# Altium footprint library HMC2003_module.PcbLib: 29 footprints (part 1 of 2)
Each footprint in its own frame and in the unit in brackets; x right, y up, seen from the top. Pads: shape width x height; smd on the part's side, far side on the other; paste and mask are expansions set on the pad; w line width, h text height; cw(c..) or ccw(c..) is an arc to the next point about the centre after c.
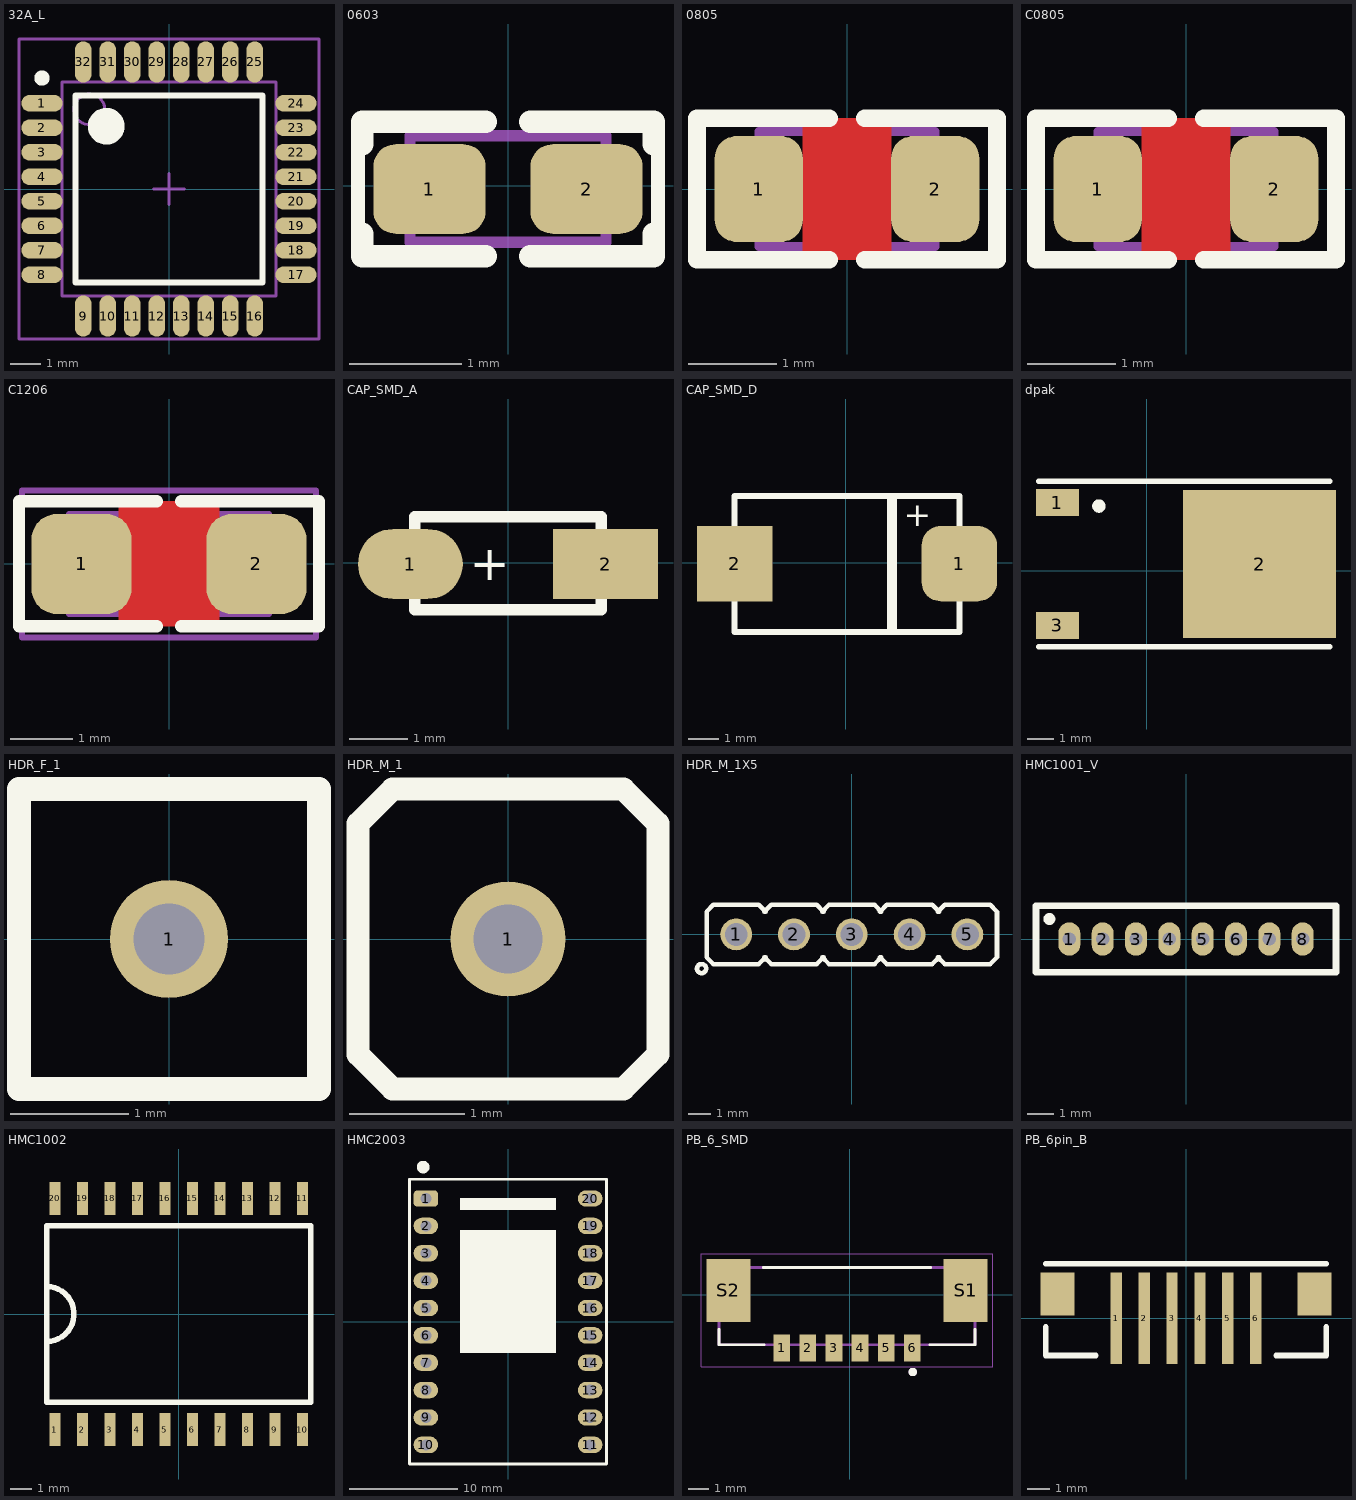
[diagram p0: the footprints below, top view; thin cyan lines are the x and y axes]

## 32A_L [mm] "Thin QFP, 32-Leads, Body 7x7mm, Pitch 0.8mm, IPC High Density"
height 1.2
pads (32):
  oval 1.35x0.55 smd: 1(-4.15,2.8) 2(-4.15,2) 3(-4.15,1.2) 4(-4.15,0.4) 5(-4.15,-0.4) 6(-4.15,-1.2) 7(-4.15,-2) 8(-4.15,-2.8) 17(4.15,-2.8) 18(4.15,-2) 19(4.15,-1.2) 20(4.15,-0.4) 21(4.15,0.4) 22(4.15,1.2) 23(4.15,2) 24(4.15,2.8)
  oval 0.55x1.35 smd: 9(-2.8,-4.15) 10(-2,-4.15) 11(-1.2,-4.15) 12(-0.4,-4.15) 13(0.4,-4.15) 14(1.2,-4.15) 15(2,-4.15) 16(2.8,-4.15) 25(2.8,4.15) 26(2,4.15) 27(1.2,4.15) 28(0.4,4.15) 29(-0.4,4.15) 30(-1.2,4.15) 31(-2,4.15) 32(-2.8,4.15)
Top Overlay:
  circle w0.6: c-2.05,2.05 r0.3
  circle w0.25: c-4.15,3.625 r0.125
  lines w0.2: -3.05,-3.05 3.05,-3.05 3.05,3.05 -3.05,3.05 -3.05,-3.05
Mechanical 13:
  circle w0.1: c-2.6,2.6 r0.5
  lines w0.1: -3.5,-3.5 3.5,-3.5 3.5,3.5 -3.5,3.5 -3.5,-3.5
Mechanical 15:
  lines w0.1: -0.5,0 0.5,0 ; 0,-0.5 0,0.5 ; -4.9,-4.9 4.9,-4.9 4.9,4.9 -4.9,4.9 -4.9,-4.9
3D body: height 1.2, standoff 0, extent -3.5,-3.5 3.5,3.5

## 0603 [mm]
pads (2):
  rrect50% 1x0.8 smd mask+0.075: 1(-0.7,-0.027) 2(0.7,-0.027)
Top Overlay:
  lines w0.125: -1.337,-0.427 -1.337,0.373 ; 1.337,-0.427 1.337,0.373
  lines w0.2: -1.3,-0.427 -1.3,-0.627 -0.2,-0.627 ; -1.3,0.373 -1.3,0.573 -0.2,0.573 ; 0.2,-0.627 1.3,-0.627 1.3,-0.427 ; 0.2,0.573 1.3,0.573 1.3,0.373
Mechanical 13:
  lines w0.1: -0.875,-0.502 0.875,-0.502 0.875,0.448 -0.875,0.448 -0.875,-0.502
3D body: height 0.6, standoff 0, extent -0.875,-0.502 0.875,0.448

## 0805 [mm] ",0805, 2012, 200X130"
pads (2):
  rrect50% 1x1.2 smd mask+0.075: 1(-1,0) 2(1,0)
Top Layer:
  pour cut-out: -0.5,0.8 0.5,0.8 0.5,-0.8 -0.5,-0.8
Top Overlay:
  lines w0.2: -0.2,-0.8 -1.7,-0.8 -1.7,0.8 -0.2,0.8 ; 0.2,-0.8 1.7,-0.8 1.7,0.8 0.2,0.8
Mechanical 13:
  lines w0.1: -1,-0.65 1,-0.65 1,0.65 -1,0.65 -1,-0.65
3D body: height 0.8, standoff 0, extent -1,-0.65 1,0.65

## C0805 [mm] "CHIP Capacitor, 2.0X1.3mm, 0805"
pads (2):
  rrect50% 1x1.2 smd mask+0.075: 1(-1,0) 2(1,0)
Top Layer:
  pour cut-out: -0.5,0.8 0.5,0.8 0.5,-0.8 -0.5,-0.8
Top Overlay:
  lines w0.2: -0.2,-0.8 -1.7,-0.8 -1.7,0.8 -0.2,0.8 ; 0.2,-0.8 1.7,-0.8 1.7,0.8 0.2,0.8
Mechanical 13:
  lines w0.1: -1,-0.65 1,-0.65 1,0.65 -1,0.65 -1,-0.65
3D body "User Library-CAPC2013X10.step": height 1, standoff 0, extent -1,-0.625 1,0.625

## C1206 [mm] "CHIP Capacitor, 3.2X1.6mm, 1206"
height 2
pads (2):
  rrect50% 1.6x1.6 smd mask+0.075: 1(-1.4,0) 2(1.4,0)
Top Layer:
  pour cut-out: -0.8,1 -0.8,-1 0.8,-1 0.8,1
Top Overlay:
  lines w0.2: -0.2,-1 -2.4,-1 -2.4,1 -0.2,1 ; 0.2,-1 2.4,-1 2.4,1 0.2,1
Mechanical 13:
  lines w0.1: -1.6,-0.8 -1.6,0.8 1.6,0.8 1.6,-0.8 -1.6,-0.8
Mechanical 15:
  lines w0.1: -0.5,0 0.5,0 ; 0,-0.5 0,0.5 ; -2.35,-1.175 -2.35,1.175 2.35,1.175 2.35,-1.175 -2.35,-1.175
3D body "User Library-CAPC3216X10.step": height 1, standoff 0, extent -1.6,-0.8 1.6,0.8

## CAP_SMD_A [mm]
pads (2):
  oval 1.8x1.2 smd: 1(-1.676,-0.025)
  rect 1.8x1.2 smd: 2(1.676,-0.025)
Top Overlay:
  lines w0.2: -1.6,-0.813 1.6,-0.813 1.6,0.787 -1.6,0.787 -1.6,-0.813
  text "+" at -0.66,-0.305 h0.6
3D body "User Library-CAP_TANT_3216-18_A_case-1.step": height 1.7, standoff 0, extent -1.7,-0.889 1.7,0.911

## CAP_SMD_D [mm]
pads (2):
  rrect50% 2.5x2.5 smd: 1(3.767,-0.025)
  rect 2.5x2.5 smd: 2(-3.683,-0.025)
Top Overlay:
  rectangle: 1.372,-2.286 1.702,2.214
  lines w0.2: -3.683,-2.286 -3.683,2.214 3.767,2.214 3.767,-2.286 -3.683,-2.286
  text "+" at 1.93,1.219 h0.8
3D body "User Library-AVX_E_CASE.step": height 4.2, standoff 0, extent -3.319,-2.418 4.081,2.032

## dpak [mm]
pads (3):
  rect 1.6x1 smd: 1(-3.319,2.539) 3(-3.319,-2.031)
  rect 5.7x5.5 smd: 2(4.208,0.254)
Top Overlay:
  circle w0.25: c-1.776,2.413 r0.125
  lines w0.2: -4.019,-2.831 6.831,-2.831 ; -4.019,3.339 6.831,3.339
3D body "DPAK-1.STEP": height 2.44, standoff 0.03, extent -3.699,-3.048 6.239,3.492

## HDR_F_1 [mm] "Connector; Header; 1 Position"
height 8
pads (1):
  round 1 / inner round 1.4 / far side round 1 hole 0.6: 1(0,0)
Top Overlay:
  lines w0.2: -1.27,-1.27 1.27,-1.27 1.27,1.27 -1.27,1.27 -1.27,-1.27
3D body "PBS-1.stp": height 8.5, standoff -3.15, extent -1.27,-1.27 1.27,1.27

## HDR_M_1 [mm] "Connector; Header; 1 Position"
pads (1):
  round 1 / inner round 1.4 / far side round 1 hole 0.6 mask+0.1: 1(0,0)
Top Overlay:
  lines w0.2: -1.3,-1 -1.3,1 -1,1.3 1,1.3 1.3,1 1.3,-1 1,-1.3 -1,-1.3 -1.3,-1
3D body "PLS-1.step": height 3.1, standoff -8.34, extent -1.27,-1.27 1.27,1.27

## HDR_M_1X5 [mm] "Connector; Header; 5 Position"
pads (5):
  round 1.4 / inner round 1.4 / far side oval 1.4x2.2 hole 1 mask+0.1: 1(-5.08,0) 2(-2.54,0) 3(0,0) 4(2.54,0) 5(5.08,0)
Top Overlay:
  circle w0.2: c-6.6,-1.5 r0.2
  lines w0.2: -3.84,-1 -3.54,-1.3 -1.54,-1.3 -1.24,-1 ; -3.84,1 -3.54,1.3 -1.54,1.3 -1.24,1 ; -3.78,-1 -4.08,-1.3 -6.08,-1.3 -6.38,-1 -6.38,1 -6.08,1.3 -4.08,1.3 -3.78,1 ; -1.3,-1 -1,-1.3 1,-1.3 1.3,-1 ; -1.3,1 -1,1.3 1,1.3 1.3,1 ; 1.24,-1 1.54,-1.3 3.54,-1.3 3.84,-1 ; 1.24,1 1.54,1.3 3.54,1.3 3.84,1 ; 3.78,-1 4.08,-1.3 6.08,-1.3 6.38,-1 6.38,1 6.08,1.3 4.08,1.3 3.78,1
3D body "PLS-1.step": height 8.54, standoff -2.9, extent 3.81,-1.27 6.35,1.27
3D body "PLS-1.step": height 8.54, standoff -2.9, extent 1.27,-1.27 3.81,1.27
3D body "PLS-1.step": height 8.54, standoff -2.9, extent -1.27,-1.27 1.27,1.27
3D body "PLS-1.step": height 8.54, standoff -2.9, extent -6.35,-1.27 -3.81,1.27
3D body "PLS-1.step": height 8.54, standoff -2.9, extent -3.81,-1.27 -1.27,1.27

## HMC1001_V [mil]
pads (8):
  oval 33x50 hole 20: 1(-175,0) 2(-125,0) 3(-75,0) 4(-25,0) 5(25,0) 6(75,0) 7(125,0) 8(175,0)
Top Overlay:
  circle w10: c-205,30 r4
  lines w10: -225,-50 -225,50 225,50 225,-50 -225,-50

## HMC1002 [mil]
pads (20):
  rect 20x60 smd: 1(-225,-210) 2(-175,-210) 3(-125,-210) 4(-75,-210) 5(-25,-210) 6(25,-210) 7(75,-210) 8(125,-210) 9(175,-210) 10(225,-210) 11(225,210) 12(175,210) 13(125,210) 14(75,210) 15(25,210) 16(-25,210) 17(-75,210) 18(-125,210) 19(-175,210) 20(-225,210)
Top Overlay:
  lines w10: -240,-50 ccw(c-240,0) -240,50 ; -240,-160 -240,160 240,160 240,-160 -240,-160

## HMC2003 [mil] "HMC2003"
pads (20):
  rrect50% 90x60 hole 40: 1(-300,450)
  oval 90x60 hole 40: 2(-300,350) 3(-300,250) 4(-300,150) 5(-300,50) 6(-300,-50) 7(-300,-150) 8(-300,-250) 9(-300,-350) 10(-300,-450) 11(300,-450) 12(300,-350) 13(300,-250) 14(300,-150) 15(300,-50) 16(300,50) 17(300,150) 18(300,250) 19(300,350) 20(300,450)
Top Overlay:
  circle w23.62: c-310,565 r11.18
  rectangle: -175,407.5 175,452.5
  rectangle: -175,-115 175,335
  lines w10: -360,-520 -360,520 360,520 360,-520 -360,-520

## PB_6_SMD [mm]
height 3.8
pads (8):
  rect 0.8x1.3 smd: 1(-3.252,-2.555) 2(-2.002,-2.555) 3(-0.752,-2.555) 4(0.498,-2.555) 5(1.748,-2.555) 6(2.998,-2.555)
  rect 2.1x3 smd: S1(5.548,0.195) S2(-5.802,0.195)
Top Overlay:
  circle w0.2: c3.018,-3.705 r0.1
  lines w0.127: -6.252,-1.655 -6.252,-2.405 -4.077,-2.405 ; -4.127,1.295 3.873,1.295 ; 3.823,-2.405 5.998,-2.405 5.998,-1.655
Mechanical 13:
  circle w0.2: c3.018,-3.705 r0.1
  lines w0.127: -6.252,-2.405 5.998,-2.405 5.998,1.295 -6.252,1.295 -6.252,-2.405
Mechanical 15:
  lines w0.05: -7.102,-3.455 6.848,-3.455 6.848,1.945 -7.102,1.945 -7.102,-3.455
3D body "step_temp.STEP": height 4.77, standoff 0.03, extent -6.452,-2.803 6.198,1.397

## PB_6pin_B [mm] "White SMD Connector 6pin"
height 10
pads (8):
  rect 0.508x4.064 smd: 1(-3.1,0) 2(-1.86,0) 3(-0.62,0) 4(0.62,0) 5(1.86,0) 6(3.1,0)
  rect 1.5x1.9 smd: ""(-5.7,1.082) ""(5.7,1.082)
Top Overlay:
  lines w0.254: -6.223,-0.381 -6.223,-1.651 -4,-1.651 ; -6.223,2.413 6.223,2.413 ; 4,-1.651 6.223,-1.651 6.223,-0.381